# EAGLE library part G6S-2G-Y-24VDC (library railman)
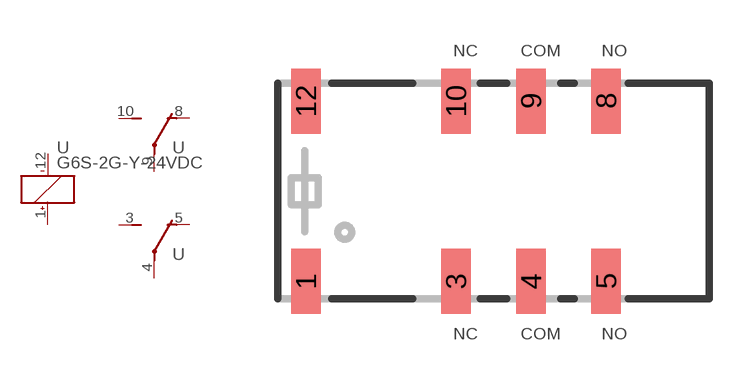
[diagram p6: symbol with the pads of G6S-2G-Y-24VDC; footprint G6S-2G-Y-24VDC]

Designator prefix -; gates G$1=K+- G$2=U G$3=U

## G6S-2G-Y-24VDC  [G6S-2G-Y-24VDC]
1  G$1:+  pas
3  G$3:NO  pas
4  G$3:COM  pas
5  G$3:NC  pas
8  G$2:NC  pas
9  G$2:COM  pas
10  G$2:NO  pas
12  G$1:-  pas

## Footprint G6S-2G-Y-24VDC (pad centres in mm)
smd 1 x 2.2: 1 -6.35,-3.05; 3 -1.27,-3.05; 4 1.27,-3.05; 5 3.81,-3.05; 8 3.81,3.05; 9 1.27,3.05; 10 -1.27,3.05; 12 -6.35,3.05